# EAGLE library part IC_MCP73833 (library akita)
Microchip LiPo Charge Controller
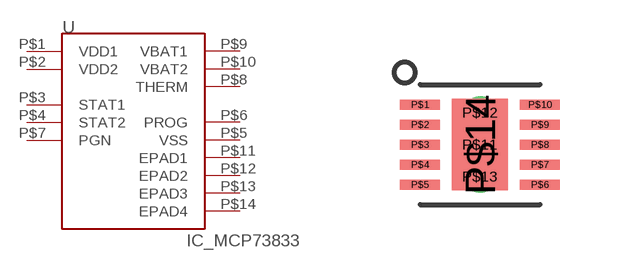
[diagram p72: symbol with the pads of DFN10_0.5MM; footprint DFN10_0.5MM]

Designator prefix U

## IC_MCP73833  [DFN10_0.5MM]
P$1  VDD1
P$2  VDD2
P$3  STAT1
P$4  STAT2
P$5  VSS
P$6  PROG
P$7  PGN
P$8  THERM
P$9  VBAT1
P$10  VBAT2
P$11  EPAD1
P$12  EPAD2
P$13  EPAD3
P$14  EPAD4

## Footprint DFN10_0.5MM (pad centres in mm)
DFN10, 0.5mm, 3x3mm, with EPAD
smd 1 x 0.25: P$1 -1.5,1; P$2 -1.5,0.5; P$3 -1.5,0; P$4 -1.5,-0.5; P$5 -1.5,-1; P$6 1.5,-1; P$7 1.5,-0.5; P$8 1.5,0; P$9 1.5,0.5; P$10 1.5,1
drill 0.3 pad 0.406: P$11 0,0; P$12 0,0.8; P$13 0,-0.8
smd 1.4 x 2.3: P$14 0,0